# EAGLE library part NJU7662 (library personal)
voltage inverter NJU76620
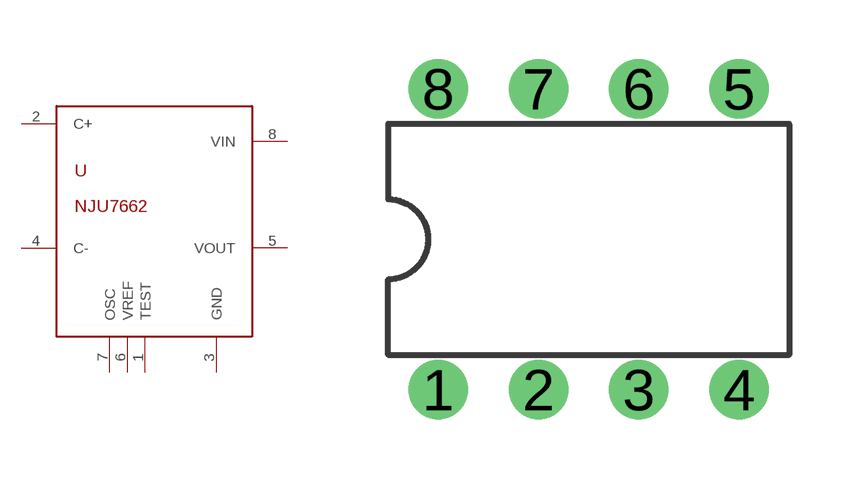
[diagram p13: symbol with the pads of DIL08; footprint DIL08]

Designator prefix -

## NJU7662  [DIL08]
1  TEST
2  C+
3  GND
4  C-
5  VOUT
6  VREF
7  OSC
8  VIN

## Footprint DIL08 (pad centres in mm)
Dual In Line Package
drill 1 round: 1 -3.81,-3.81; 2 -1.27,-3.81; 3 1.27,-3.81; 4 3.81,-3.81; 5 3.81,3.81; 6 1.27,3.81; 7 -1.27,3.81; 8 -3.81,3.81